# Altium integrated library Linear Technology Power Management Switching Regulator LT1074-LT8705.IntLib: 2252 symbols (part 2 of 148)
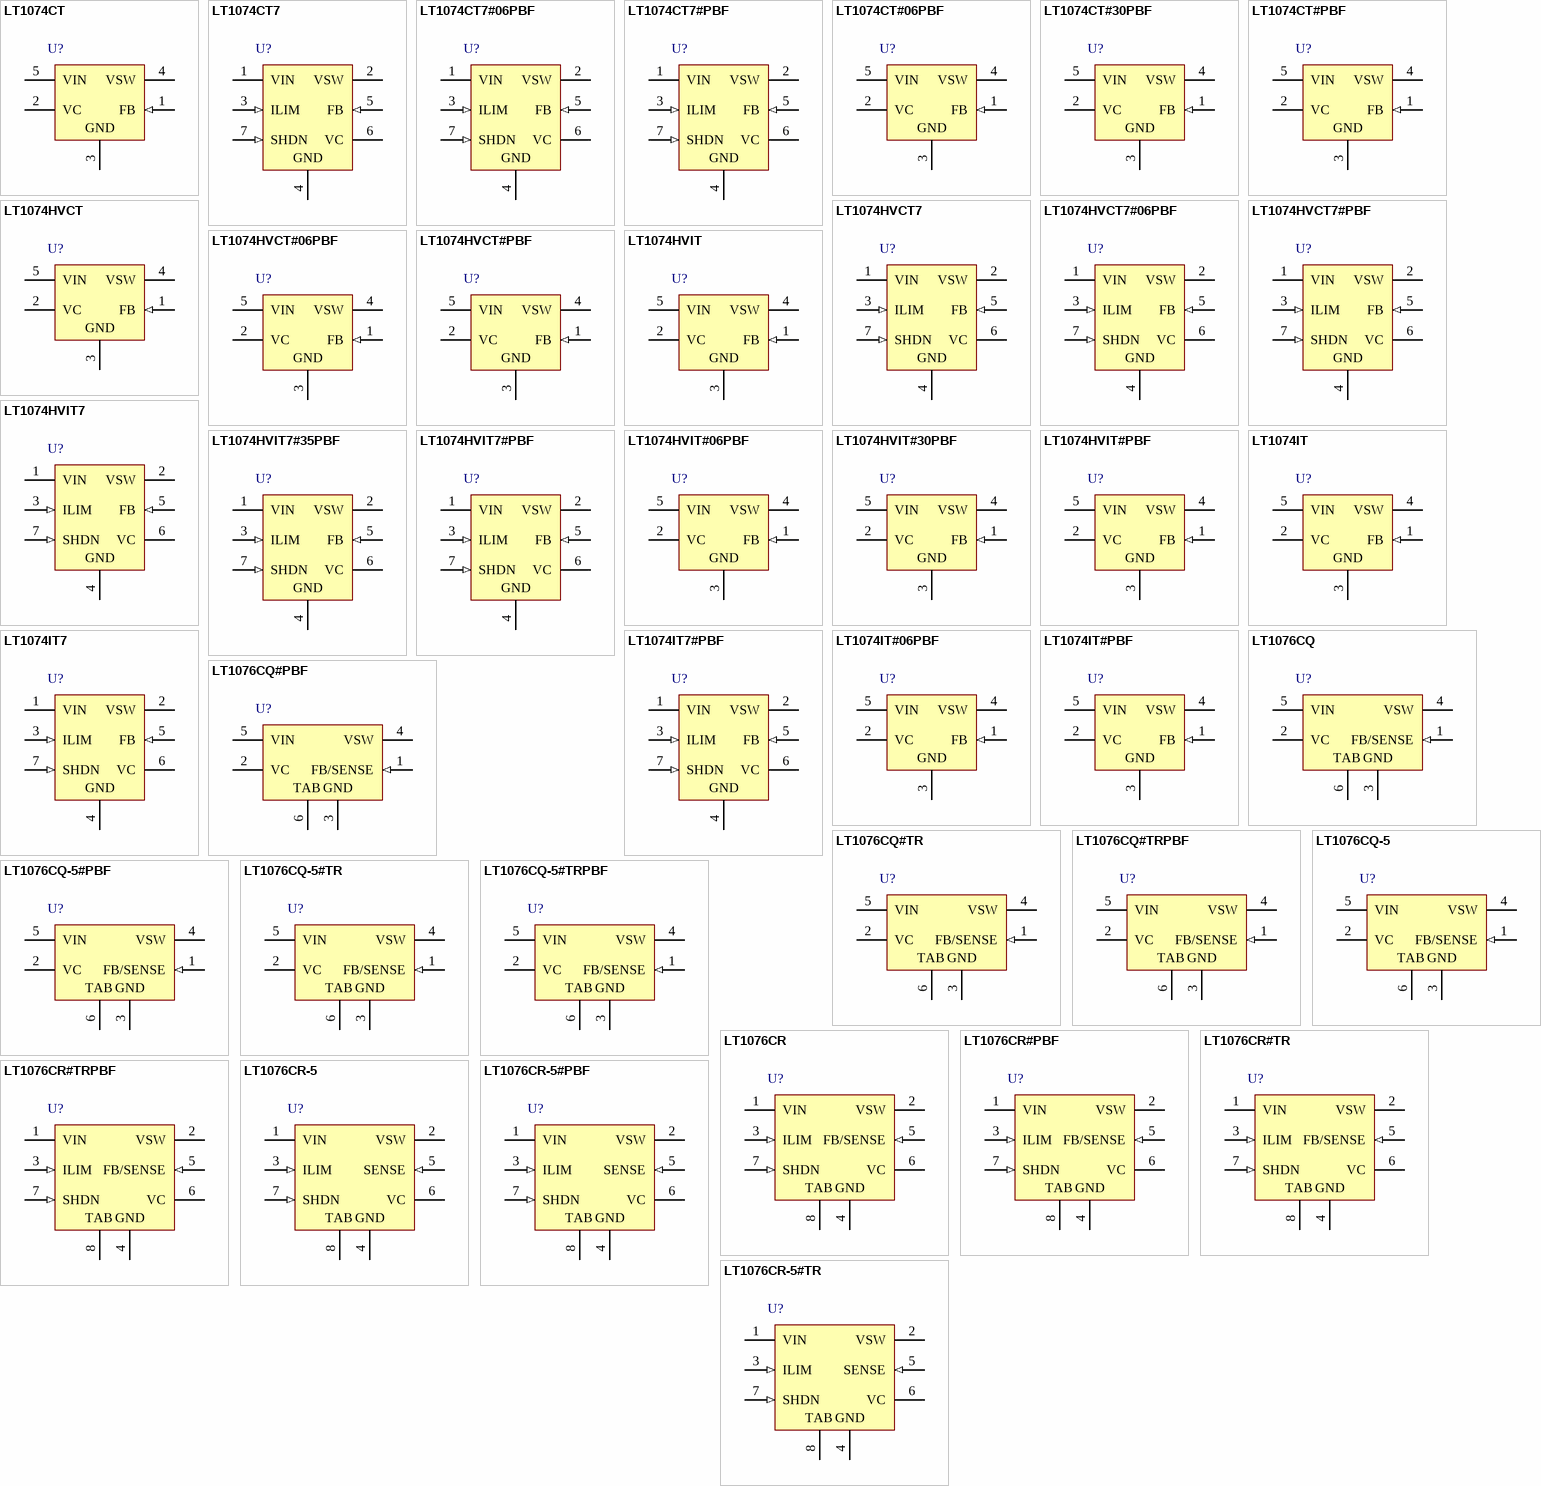
[diagram p72: symbols LT1074CT to LT1076CR-5#TR]

## LT1076CQ#TRPBF
designator U?
Step-Down Switching Regulator, 5-pin DPAK (Q-5), 0 to 70 degC, Pb-Free, Tape and Reel; Manufacturer: Linear Technology; PartNumber: LT1076CQ#TRPBF; Number of Outputs: 1; DatasheetVersion: Rev. D; PackageVersion: Rev. F, 09/2011; PackageReference: Q-5; PackageDescription: 5-Pin Plastic DD Pak, Body 10.2235 x 8.89 mm, Pitch 1.702 mm; Supplier 1: Digi-Key; Supplier Part Number 1: LT1076CQ#TRPBF-ND; Packing: Tape and Reel; RoHS: TRUE; Mounting Technology: Surface Mount; ComponentLink1Description: Manufacturer URL; ComponentLink1URL: http://www.linear.com/; ComponentLink2Description: Datasheet; ComponentLink2URL: http://cds.linear.com/docs/en/datasheet/1074fds.pdf; ComponentLink3Description: Package Specification; ComponentLink3URL: http://cds.linear.com/docs/en/packaging/Q%20DD5%2005-08-1461%20Rev%20F.pdf
footprint LT-Q-5_N (DPAK, 5-Leads, Body 10.22x8.89mm, Pitch 1.702mm, IPC Medium Density)
footprint LT-Q-5_L (DPAK, 5-Leads, Body 10.22x8.89mm, Pitch 1.702mm, IPC High Density)
footprint LT-Q-5_M (DPAK, 5-Leads, Body 10.22x8.89mm, Pitch 1.702mm, IPC Low Density)
pins: 1 FB/SENSE (in), 2 VC, 3 GND (power) "It might seem unusual to describe a ground pin, but in the case of regulators, the ground pin must be connected properly to ensure good load regulation. The internal reference voltage is referenced to the ground pin; so any (See Datasheet)", 4 VSW (power), 5 VIN (power) "The VIN pin is both the supply voltage for internal control circuitry and one end of the high current switch. It is important, especially at low input voltages, that this pin be bypassed with a low ESR, and low inductance (See Datasheet)", 6 TAB (power) "It might seem unusual to describe a ground pin, but in the case of regulators, the ground pin must be connected properly to ensure good load regulation. The internal reference voltage is referenced to the ground pin; so any (See Datasheet)"

## LT1076CQ-5
designator U?
Step-Down Switching Regulator, 5-pin DPAK (Q-5), 0 to 70 degC; Manufacturer: Linear Technology; PartNumber: LT1076CQ-5; Number of Outputs: 1; DatasheetVersion: Rev. C; PackageVersion: Rev. F, 09/2011; PackageReference: Q-5; PackageDescription: 5-Pin Plastic DD Pak, Body 10.2235 x 8.89 mm, Pitch 1.702 mm; Supplier 1: Digi-Key; Supplier Part Number 1: LT1076CQ-5-ND; Supplier 2: Newark; Supplier Part Number 2: 57M1323; RoHS: FALSE; Mounting Technology: Surface Mount; ComponentLink1Description: Manufacturer URL; ComponentLink1URL: http://www.linear.com/; ComponentLink2Description: Datasheet; ComponentLink2URL: http://cds.linear.com/docs/en/datasheet/10765fc.pdf; ComponentLink3Description: Package Specification; ComponentLink3URL: http://cds.linear.com/docs/en/packaging/Q%20DD5%2005-08-1461%20Rev%20F.pdf
footprint LT-Q-5_N (DPAK, 5-Leads, Body 10.22x8.89mm, Pitch 1.702mm, IPC Medium Density)
footprint LT-Q-5_L (DPAK, 5-Leads, Body 10.22x8.89mm, Pitch 1.702mm, IPC High Density)
footprint LT-Q-5_M (DPAK, 5-Leads, Body 10.22x8.89mm, Pitch 1.702mm, IPC Low Density)
pins: 1 FB/SENSE (in), 2 VC, 3 GND (power), 4 VSW (power), 5 VIN (power), 6 TAB

## LT1076CQ-5#PBF
designator U?
Step-Down Switching Regulator, 5-pin DPAK (Q-5), 0 to 70 degC, Pb-Free; Manufacturer: Linear Technology; PartNumber: LT1076CQ-5#PBF; Number of Outputs: 1; DatasheetVersion: Rev. C; PackageVersion: Rev. F, 09/2011; PackageReference: Q-5; PackageDescription: 5-Pin Plastic DD Pak, Body 10.2235 x 8.89 mm, Pitch 1.702 mm; Supplier 1: Digi-Key; Supplier Part Number 1: LT1076CQ-5#PBF-ND; Supplier 2: Farnell; Supplier Part Number 2: 2211409; Supplier 3: Newark; Supplier Part Number 3: 57M1324; RoHS: TRUE; Mounting Technology: Surface Mount; ComponentLink1Description: Manufacturer URL; ComponentLink1URL: http://www.linear.com/; ComponentLink2Description: Datasheet; ComponentLink2URL: http://cds.linear.com/docs/en/datasheet/10765fc.pdf; ComponentLink3Description: Package Specification; ComponentLink3URL: http://cds.linear.com/docs/en/packaging/Q%20DD5%2005-08-1461%20Rev%20F.pdf
footprint LT-Q-5_N (DPAK, 5-Leads, Body 10.22x8.89mm, Pitch 1.702mm, IPC Medium Density)
footprint LT-Q-5_L (DPAK, 5-Leads, Body 10.22x8.89mm, Pitch 1.702mm, IPC High Density)
footprint LT-Q-5_M (DPAK, 5-Leads, Body 10.22x8.89mm, Pitch 1.702mm, IPC Low Density)
pins: 1 FB/SENSE (in), 2 VC, 3 GND (power), 4 VSW (power), 5 VIN (power), 6 TAB

## LT1076CQ-5#TR
designator U?
Step-Down Switching Regulator, 5-pin DPAK (Q-5), 0 to 70 degC, Tape and Reel; Manufacturer: Linear Technology; PartNumber: LT1076CQ-5#TR; Number of Outputs: 1; DatasheetVersion: Rev. C; PackageVersion: Rev. F, 09/2011; PackageReference: Q-5; PackageDescription: 5-Pin Plastic DD Pak, Body 10.2235 x 8.89 mm, Pitch 1.702 mm; Supplier 1: Digi-Key; Supplier Part Number 1: LT1076CQ-5#TR-ND; Packing: Tape and Reel; RoHS: FALSE; Mounting Technology: Surface Mount; ComponentLink1Description: Manufacturer URL; ComponentLink1URL: http://www.linear.com/; ComponentLink2Description: Datasheet; ComponentLink2URL: http://cds.linear.com/docs/en/datasheet/10765fc.pdf; ComponentLink3Description: Package Specification; ComponentLink3URL: http://cds.linear.com/docs/en/packaging/Q%20DD5%2005-08-1461%20Rev%20F.pdf
footprint LT-Q-5_N (DPAK, 5-Leads, Body 10.22x8.89mm, Pitch 1.702mm, IPC Medium Density)
footprint LT-Q-5_L (DPAK, 5-Leads, Body 10.22x8.89mm, Pitch 1.702mm, IPC High Density)
footprint LT-Q-5_M (DPAK, 5-Leads, Body 10.22x8.89mm, Pitch 1.702mm, IPC Low Density)
pins: 1 FB/SENSE (in), 2 VC, 3 GND (power), 4 VSW (power), 5 VIN (power), 6 TAB

## LT1076CQ-5#TRPBF
designator U?
Step-Down Switching Regulator, 5-pin DPAK (Q-5), 0 to 70 degC, Pb-Free, Tape and Reel; Manufacturer: Linear Technology; PartNumber: LT1076CQ-5#TRPBF; Number of Outputs: 1; DatasheetVersion: Rev. C; PackageVersion: Rev. F, 09/2011; PackageReference: Q-5; PackageDescription: 5-Pin Plastic DD Pak, Body 10.2235 x 8.89 mm, Pitch 1.702 mm; Supplier 1: Digi-Key; Supplier Part Number 1: LT1076CQ-5#TRPBF-ND; Packing: Tape and Reel; RoHS: TRUE; Mounting Technology: Surface Mount; ComponentLink1Description: Manufacturer URL; ComponentLink1URL: http://www.linear.com/; ComponentLink2Description: Datasheet; ComponentLink2URL: http://cds.linear.com/docs/en/datasheet/10765fc.pdf; ComponentLink3Description: Package Specification; ComponentLink3URL: http://cds.linear.com/docs/en/packaging/Q%20DD5%2005-08-1461%20Rev%20F.pdf
footprint LT-Q-5_N (DPAK, 5-Leads, Body 10.22x8.89mm, Pitch 1.702mm, IPC Medium Density)
footprint LT-Q-5_L (DPAK, 5-Leads, Body 10.22x8.89mm, Pitch 1.702mm, IPC High Density)
footprint LT-Q-5_M (DPAK, 5-Leads, Body 10.22x8.89mm, Pitch 1.702mm, IPC Low Density)
pins: 1 FB/SENSE (in), 2 VC, 3 GND (power), 4 VSW (power), 5 VIN (power), 6 TAB

## LT1076CR
designator U?
Step-Down Switching Regulator, 7-pin DPAK (R-7), 0 to 70 degC; Manufacturer: Linear Technology; PartNumber: LT1076CR; Number of Outputs: 1; DatasheetVersion: Rev. D; PackageVersion: Rev. F, 05/2012; PackageReference: R-7; PackageDescription: 7-Pin Plastic DD Pak, Body 10.2235 x 8.89 mm, Pitch 1.27 mm; Supplier 1: Newark; Supplier Part Number 1: 57M1330; RoHS: FALSE; Mounting Technology: Surface Mount; ComponentLink1Description: Manufacturer URL; ComponentLink1URL: http://www.linear.com/; ComponentLink2Description: Datasheet; ComponentLink2URL: http://cds.linear.com/docs/en/datasheet/1074fds.pdf; ComponentLink3Description: Package Specification; ComponentLink3URL: http://cds.linear.com/docs/en/packaging/05081462_F_R.pdf
footprint LT-R-7_N (DPAK, 7-Leads, Body 10.224x8.89mm, Pitch 1.27mm, IPC Medium Density)
footprint LT-R-7_L (DPAK, 7-Leads, Body 10.224x8.89mm, Pitch 1.27mm, IPC High Density)
footprint LT-R-7_M (DPAK, 7-Leads, Body 10.224x8.89mm, Pitch 1.27mm, IPC Low Density)
pins: 1 VIN (power) "The VIN pin is both the supply voltage for internal control circuitry and one end of the high current switch.", 2 VSW (power), 3 ILIM (in) "The ILIM pin is used to reduce current limit below the preset value of 6.5A.", 4 GND (power) "It might seem unusual to describe a ground pin, but in the case of regulators, the ground pin must be connected properly to ensure good load regulation.", 5 FB/SENSE (in) "The feedback pin is the inverting input of an error amplifier which controls the regulator output by adjusting duty cycle.", 6 VC, 7 SHDN (in) "The shutdown pin is used for undervoltage lockout, micropower shutdown, soft-start, delayed start, or as a general purpose on/off control of the regulator output.", 8 TAB (power)

## LT1076CR#PBF
designator U?
Step-Down Switching Regulator, 7-pin DPAK (R-7), 0 to 70 degC, Pb-Free; Manufacturer: Linear Technology; PartNumber: LT1076CR#PBF; Number of Outputs: 1; DatasheetVersion: Rev. D; PackageVersion: Rev. F, 05/2012; PackageReference: R-7; PackageDescription: 7-Pin Plastic DD Pak, Body 10.2235 x 8.89 mm, Pitch 1.27 mm; Supplier 1: Digi-Key; Supplier Part Number 1: LT1076CR#PBF-ND; Supplier 2: Farnell; Supplier Part Number 2: 1273666; Supplier 3: Newark; Supplier Part Number 3: 57M1335; RoHS: TRUE; Mounting Technology: Surface Mount; ComponentLink1Description: Manufacturer URL; ComponentLink1URL: http://www.linear.com/; ComponentLink2Description: Datasheet; ComponentLink2URL: http://cds.linear.com/docs/en/datasheet/1074fds.pdf; ComponentLink3Description: Package Specification; ComponentLink3URL: http://cds.linear.com/docs/en/packaging/05081462_F_R.pdf
footprint LT-R-7_N (DPAK, 7-Leads, Body 10.224x8.89mm, Pitch 1.27mm, IPC Medium Density)
footprint LT-R-7_L (DPAK, 7-Leads, Body 10.224x8.89mm, Pitch 1.27mm, IPC High Density)
footprint LT-R-7_M (DPAK, 7-Leads, Body 10.224x8.89mm, Pitch 1.27mm, IPC Low Density)
pins: 1 VIN (power) "The VIN pin is both the supply voltage for internal control circuitry and one end of the high current switch.", 2 VSW (power), 3 ILIM (in) "The ILIM pin is used to reduce current limit below the preset value of 6.5A.", 4 GND (power) "It might seem unusual to describe a ground pin, but in the case of regulators, the ground pin must be connected properly to ensure good load regulation.", 5 FB/SENSE (in) "The feedback pin is the inverting input of an error amplifier which controls the regulator output by adjusting duty cycle.", 6 VC, 7 SHDN (in) "The shutdown pin is used for undervoltage lockout, micropower shutdown, soft-start, delayed start, or as a general purpose on/off control of the regulator output.", 8 TAB (power)

## LT1076CR#TR
designator U?
Step-Down Switching Regulator, 7-pin DPAK (R-7), 0 to 70 degC, Tape and Reel; Manufacturer: Linear Technology; PartNumber: LT1076CR#TR; Number of Outputs: 1; DatasheetVersion: Rev. D; PackageVersion: Rev. F, 05/2012; PackageReference: R-7; PackageDescription: 7-Pin Plastic DD Pak, Body 10.2235 x 8.89 mm, Pitch 1.27 mm; Supplier 1: Digi-Key; Supplier Part Number 1: LT1076CR#TR-ND; Supplier 2: Newark; Supplier Part Number 2: 57M1336; Packing: Tape and Reel; RoHS: FALSE; Mounting Technology: Surface Mount; ComponentLink1Description: Manufacturer URL; ComponentLink1URL: http://www.linear.com/; ComponentLink2Description: Datasheet; ComponentLink2URL: http://cds.linear.com/docs/en/datasheet/1074fds.pdf; ComponentLink3Description: Package Specification; ComponentLink3URL: http://cds.linear.com/docs/en/packaging/05081462_F_R.pdf
footprint LT-R-7_N (DPAK, 7-Leads, Body 10.224x8.89mm, Pitch 1.27mm, IPC Medium Density)
footprint LT-R-7_L (DPAK, 7-Leads, Body 10.224x8.89mm, Pitch 1.27mm, IPC High Density)
footprint LT-R-7_M (DPAK, 7-Leads, Body 10.224x8.89mm, Pitch 1.27mm, IPC Low Density)
pins: 1 VIN (power) "The VIN pin is both the supply voltage for internal control circuitry and one end of the high current switch.", 2 VSW (power), 3 ILIM (in) "The ILIM pin is used to reduce current limit below the preset value of 6.5A.", 4 GND (power) "It might seem unusual to describe a ground pin, but in the case of regulators, the ground pin must be connected properly to ensure good load regulation.", 5 FB/SENSE (in) "The feedback pin is the inverting input of an error amplifier which controls the regulator output by adjusting duty cycle.", 6 VC, 7 SHDN (in) "The shutdown pin is used for undervoltage lockout, micropower shutdown, soft-start, delayed start, or as a general purpose on/off control of the regulator output.", 8 TAB (power)

## LT1076CR#TRPBF
designator U?
Step-Down Switching Regulator, 7-pin DPAK (R-7), 0 to 70 degC, Pb-Free, Tape and Reel; Manufacturer: Linear Technology; PartNumber: LT1076CR#TRPBF; Number of Outputs: 1; DatasheetVersion: Rev. D; PackageVersion: Rev. F, 05/2012; PackageReference: R-7; PackageDescription: 7-Pin Plastic DD Pak, Body 10.2235 x 8.89 mm, Pitch 1.27 mm; Supplier 1: Digi-Key; Supplier Part Number 1: LT1076CR#TRPBF-ND; Packing: Tape and Reel; RoHS: TRUE; Mounting Technology: Surface Mount; ComponentLink1Description: Manufacturer URL; ComponentLink1URL: http://www.linear.com/; ComponentLink2Description: Datasheet; ComponentLink2URL: http://cds.linear.com/docs/en/datasheet/1074fds.pdf; ComponentLink3Description: Package Specification; ComponentLink3URL: http://cds.linear.com/docs/en/packaging/05081462_F_R.pdf
footprint LT-R-7_N (DPAK, 7-Leads, Body 10.224x8.89mm, Pitch 1.27mm, IPC Medium Density)
footprint LT-R-7_L (DPAK, 7-Leads, Body 10.224x8.89mm, Pitch 1.27mm, IPC High Density)
footprint LT-R-7_M (DPAK, 7-Leads, Body 10.224x8.89mm, Pitch 1.27mm, IPC Low Density)
pins: 1 VIN (power) "The VIN pin is both the supply voltage for internal control circuitry and one end of the high current switch.", 2 VSW (power), 3 ILIM (in) "The ILIM pin is used to reduce current limit below the preset value of 6.5A.", 4 GND (power) "It might seem unusual to describe a ground pin, but in the case of regulators, the ground pin must be connected properly to ensure good load regulation.", 5 FB/SENSE (in) "The feedback pin is the inverting input of an error amplifier which controls the regulator output by adjusting duty cycle.", 6 VC, 7 SHDN (in) "The shutdown pin is used for undervoltage lockout, micropower shutdown, soft-start, delayed start, or as a general purpose on/off control of the regulator output.", 8 TAB (power)

## LT1076CR-5
designator U?
Step-Down Switching Regulator, 7-pin DPAK (R-7), 0 to 70 degC; Manufacturer: Linear Technology; PartNumber: LT1076CR-5; Number of Outputs: 1; DatasheetVersion: Rev. C; PackageVersion: Rev. F, 05/2012; PackageReference: R-7; PackageDescription: 7-Pin Plastic DD Pak, Body 10.2235 x 8.89 mm, Pitch 1.27 mm; Supplier 1: Digi-Key; Supplier Part Number 1: LT1076CR-5-ND; Supplier 2: Newark; Supplier Part Number 2: 57M1331; RoHS: FALSE; Mounting Technology: Surface Mount; ComponentLink1Description: Manufacturer URL; ComponentLink1URL: http://www.linear.com/; ComponentLink2Description: Datasheet; ComponentLink2URL: http://cds.linear.com/docs/en/datasheet/10765fc.pdf; ComponentLink3Description: Package Specification; ComponentLink3URL: http://cds.linear.com/docs/en/packaging/05081462_F_R.pdf
footprint LT-R-7_N (DPAK, 7-Leads, Body 10.224x8.89mm, Pitch 1.27mm, IPC Medium Density)
footprint LT-R-7_L (DPAK, 7-Leads, Body 10.224x8.89mm, Pitch 1.27mm, IPC High Density)
footprint LT-R-7_M (DPAK, 7-Leads, Body 10.224x8.89mm, Pitch 1.27mm, IPC Low Density)
pins: 1 VIN (power), 2 VSW (power), 3 ILIM (in), 4 GND (power), 5 SENSE (in), 6 VC, 7 SHDN (in), 8 TAB (power)

## LT1076CR-5#PBF
designator U?
Step-Down Switching Regulator, 7-pin DPAK (R-7), 0 to 70 degC, Pb-Free; Manufacturer: Linear Technology; PartNumber: LT1076CR-5#PBF; Number of Outputs: 1; DatasheetVersion: Rev. C; PackageVersion: Rev. F, 05/2012; PackageReference: R-7; PackageDescription: 7-Pin Plastic DD Pak, Body 10.2235 x 8.89 mm, Pitch 1.27 mm; Supplier 1: Digi-Key; Supplier Part Number 1: LT1076CR-5#PBF-ND; Supplier 2: Newark; Supplier Part Number 2: 57M1332; RoHS: TRUE; Mounting Technology: Surface Mount; ComponentLink1Description: Manufacturer URL; ComponentLink1URL: http://www.linear.com/; ComponentLink2Description: Datasheet; ComponentLink2URL: http://cds.linear.com/docs/en/datasheet/10765fc.pdf; ComponentLink3Description: Package Specification; ComponentLink3URL: http://cds.linear.com/docs/en/packaging/05081462_F_R.pdf
footprint LT-R-7_N (DPAK, 7-Leads, Body 10.224x8.89mm, Pitch 1.27mm, IPC Medium Density)
footprint LT-R-7_L (DPAK, 7-Leads, Body 10.224x8.89mm, Pitch 1.27mm, IPC High Density)
footprint LT-R-7_M (DPAK, 7-Leads, Body 10.224x8.89mm, Pitch 1.27mm, IPC Low Density)
pins: 1 VIN (power), 2 VSW (power), 3 ILIM (in), 4 GND (power), 5 SENSE (in), 6 VC, 7 SHDN (in), 8 TAB (power)

## LT1076CR-5#TR
designator U?
Step-Down Switching Regulator, 7-pin DPAK (R-7), 0 to 70 degC, Tape and Reel; Manufacturer: Linear Technology; PartNumber: LT1076CR-5#TR; Number of Outputs: 1; DatasheetVersion: Rev. C; PackageVersion: Rev. F, 05/2012; PackageReference: R-7; PackageDescription: 7-Pin Plastic DD Pak, Body 10.2235 x 8.89 mm, Pitch 1.27 mm; Supplier 1: Digi-Key; Supplier Part Number 1: LT1076CR-5#TR-ND; Packing: Tape and Reel; RoHS: FALSE; Mounting Technology: Surface Mount; ComponentLink1Description: Manufacturer URL; ComponentLink1URL: http://www.linear.com/; ComponentLink2Description: Datasheet; ComponentLink2URL: http://cds.linear.com/docs/en/datasheet/10765fc.pdf; ComponentLink3Description: Package Specification; ComponentLink3URL: http://cds.linear.com/docs/en/packaging/05081462_F_R.pdf
footprint LT-R-7_N (DPAK, 7-Leads, Body 10.224x8.89mm, Pitch 1.27mm, IPC Medium Density)
footprint LT-R-7_L (DPAK, 7-Leads, Body 10.224x8.89mm, Pitch 1.27mm, IPC High Density)
footprint LT-R-7_M (DPAK, 7-Leads, Body 10.224x8.89mm, Pitch 1.27mm, IPC Low Density)
pins: 1 VIN (power), 2 VSW (power), 3 ILIM (in), 4 GND (power), 5 SENSE (in), 6 VC, 7 SHDN (in), 8 TAB (power)

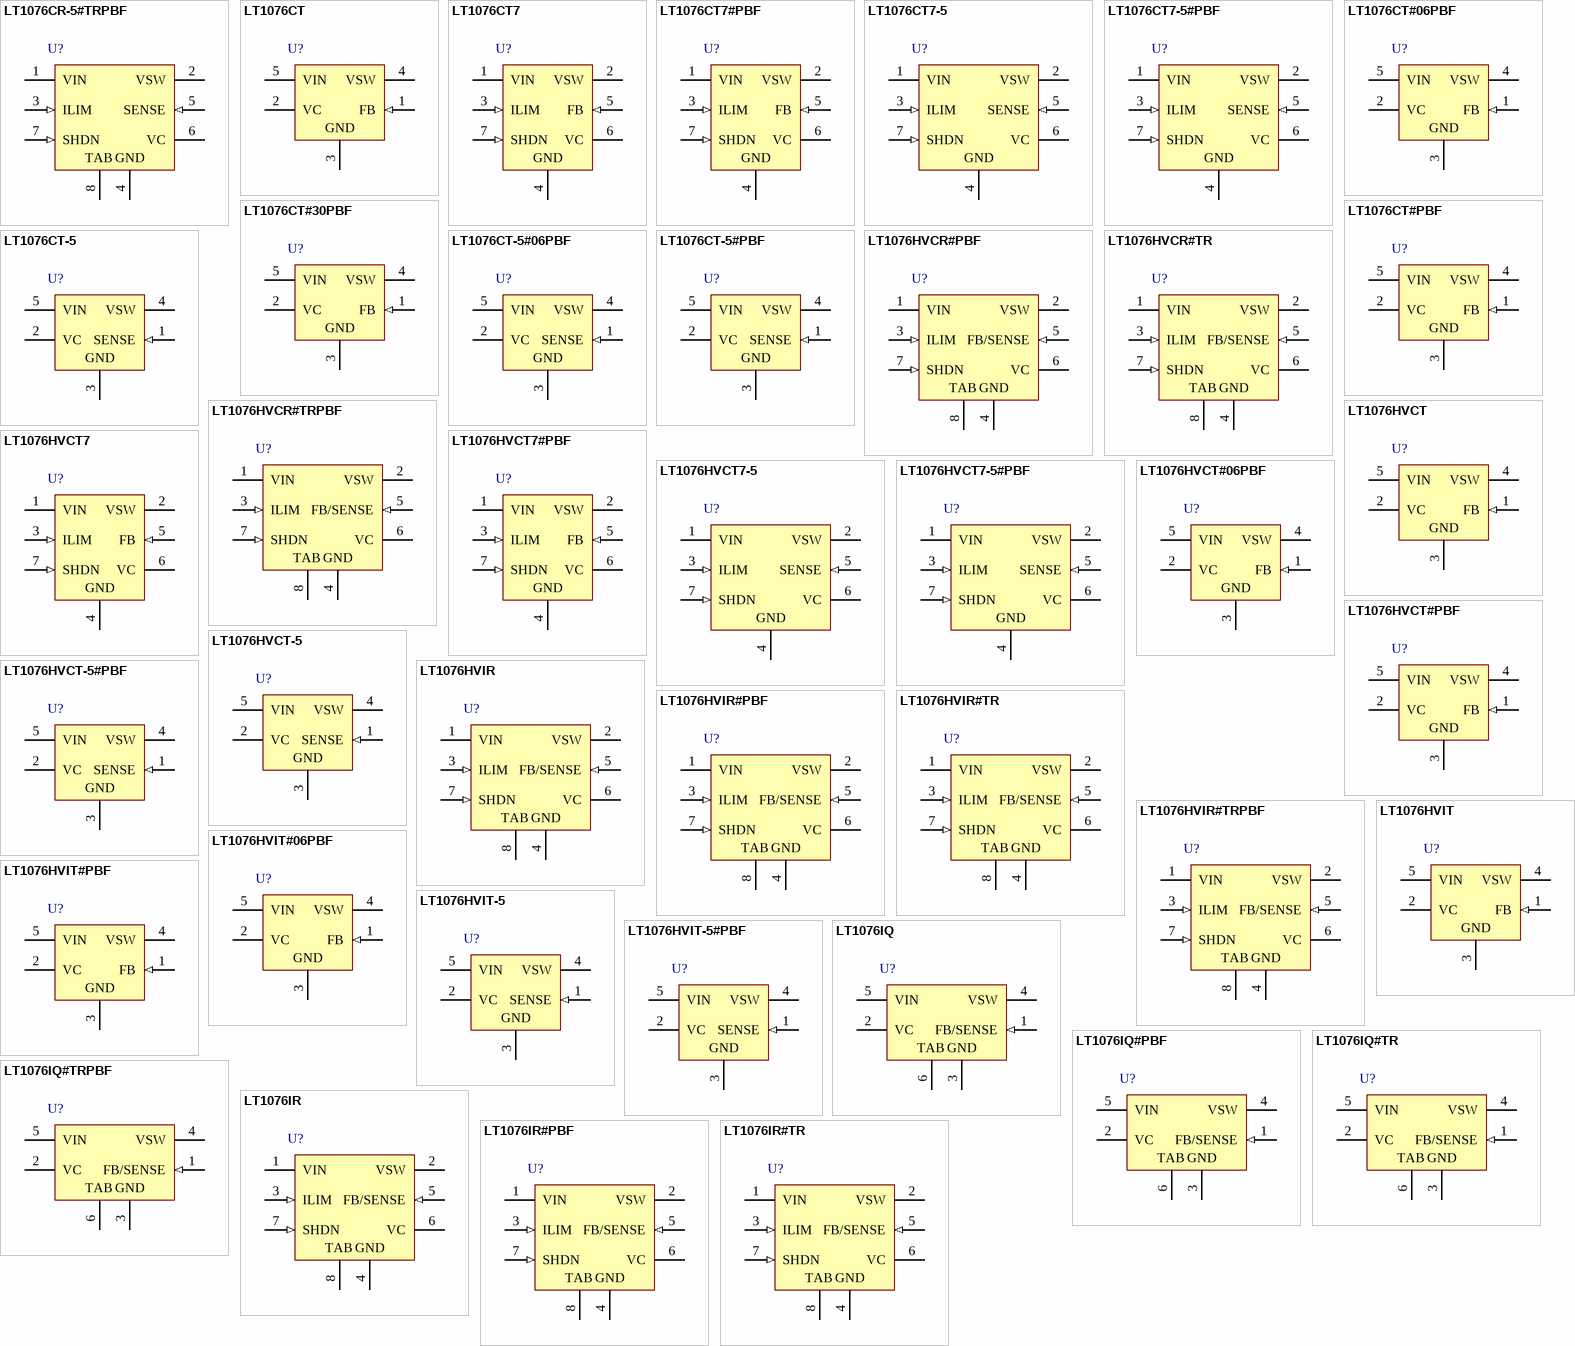
[diagram p1: symbols LT1076CR-5#TRPBF to LT1076IR#TR]

## LT1076CR-5#TRPBF
designator U?
Step-Down Switching Regulator, 7-pin DPAK (R-7), 0 to 70 degC, Pb-Free, Tape and Reel; Manufacturer: Linear Technology; PartNumber: LT1076CR-5#TRPBF; Number of Outputs: 1; DatasheetVersion: Rev. C; PackageVersion: Rev. F, 05/2012; PackageReference: R-7; PackageDescription: 7-Pin Plastic DD Pak, Body 10.2235 x 8.89 mm, Pitch 1.27 mm; Supplier 1: Digi-Key; Supplier Part Number 1: LT1076CR-5#TRPBF-ND; Supplier 2: Newark; Supplier Part Number 2: 57M1334; Packing: Tape and Reel; RoHS: TRUE; Mounting Technology: Surface Mount; ComponentLink1Description: Manufacturer URL; ComponentLink1URL: http://www.linear.com/; ComponentLink2Description: Datasheet; ComponentLink2URL: http://cds.linear.com/docs/en/datasheet/10765fc.pdf; ComponentLink3Description: Package Specification; ComponentLink3URL: http://cds.linear.com/docs/en/packaging/05081462_F_R.pdf
footprint LT-R-7_N (DPAK, 7-Leads, Body 10.224x8.89mm, Pitch 1.27mm, IPC Medium Density)
footprint LT-R-7_L (DPAK, 7-Leads, Body 10.224x8.89mm, Pitch 1.27mm, IPC High Density)
footprint LT-R-7_M (DPAK, 7-Leads, Body 10.224x8.89mm, Pitch 1.27mm, IPC Low Density)
pins: 1 VIN (power), 2 VSW (power), 3 ILIM (in), 4 GND (power), 5 SENSE (in), 6 VC, 7 SHDN (in), 8 TAB (power)

## LT1076CT
designator U?
Step-Down Switching Regulator, 5-pin FM (T-5), 0 to 70 degC; Manufacturer: Linear Technology; PartNumber: LT1076CT; Number of Outputs: 1; DatasheetVersion: Rev. D; PackageVersion: Aug-10; PackageReference: T-5; PackageDescription: 5-Pin Plastic TO-220 (Standard), Body 10.224 x 8.89 mm, Pitch 1.7 mm; Supplier 1: Digi-Key; Supplier Part Number 1: LT1076CT-ND; Supplier 2: Newark; Supplier Part Number 2: 57M1338; RoHS: FALSE; Mounting Technology: Through Hole; ComponentLink1Description: Manufacturer URL; ComponentLink1URL: http://www.linear.com/; ComponentLink2Description: Datasheet; ComponentLink2URL: http://cds.linear.com/docs/en/datasheet/1074fds.pdf; ComponentLink3Description: Package Specification; ComponentLink3URL: http://cds.linear.com/docs/en/packaging/TO-220_5_05-08-1421.pdf
footprint LT-T-5-S (FM, 5-Leads, Body 10.55x4.6mm, Pitch 1.7mm)
pins: 1 FB (in) "The feedback pin is the inverting input of an error amplifier which controls the regulator output by adjusting duty cycle. The noninverting input is internally connected to a trimmed 2.21V reference. Input bias current is (See Datasheet)", 2 VC, 3 GND (power) "It might seem unusual to describe a ground pin, but in the case of regulators, the ground pin must be connected properly to ensure good load regulation. The internal reference voltage is referenced to the ground pin; so any (See Datasheet)", 4 VSW (power), 5 VIN (power) "The VIN pin is both the supply voltage for internal control circuitry and one end of the high current switch. It is important, especially at low input voltages, that this pin be bypassed with a low ESR, and low inductance (See Datasheet)"

## LT1076CT7
designator U?
Step-Down Switching Regulator, 7-pin FM (T7-7), 0 to 70 degC; Manufacturer: Linear Technology; PartNumber: LT1076CT7; Number of Outputs: 1; DatasheetVersion: Rev. D; PackageVersion: Jun-10; PackageReference: T7-7; PackageDescription: 7-Pin Plastic TO-220 (Straight Lead), Body 10.224 x 4.382 mm, Pitch 1.27 mm; Supplier 1: Digi-Key; Supplier Part Number 1: LT1076CT7-ND; RoHS: FALSE; Mounting Technology: Through Hole; ComponentLink1Description: Manufacturer URL; ComponentLink1URL: http://www.linear.com/; ComponentLink2Description: Datasheet; ComponentLink2URL: http://cds.linear.com/docs/en/datasheet/1074fds.pdf; ComponentLink3Description: Package Specification; ComponentLink3URL: http://www.linear.com/docs/en/packaging/TO-220_7_05-08-1422_STRAIGHT_LEAD.pdf
footprint LT-T7-7-S_V (FM, 7-Leads, Body 10.55x4.6mm, Pitch 1.27mm)
pins: 1 VIN (power) "The VIN pin is both the supply voltage for internal control circuitry and one end of the high current switch.", 2 VSW (power), 3 ILIM (in) "The ILIM pin is used to reduce current limit below the preset value of 6.5A.", 4 GND (power) "It might seem unusual to describe a ground pin, but in the case of regulators, the ground pin must be connected properly to ensure good load regulation.", 5 FB (in) "The feedback pin is the inverting input of an error amplifier which controls the regulator output by adjusting duty cycle.", 6 VC, 7 SHDN (in) "The shutdown pin is used for undervoltage lockout, micropower shutdown, soft-start, delayed start, or as a general purpose on/off control of the regulator output."

## LT1076CT7#PBF
designator U?
Step-Down Switching Regulator, 7-pin FM (T7-7), 0 to 70 degC, Pb-Free; Manufacturer: Linear Technology; PartNumber: LT1076CT7#PBF; Number of Outputs: 1; DatasheetVersion: Rev. D; PackageVersion: Jun-10; PackageReference: T7-7; PackageDescription: 7-Pin Plastic TO-220 (Straight Lead), Body 10.224 x 4.382 mm, Pitch 1.27 mm; Supplier 1: Digi-Key; Supplier Part Number 1: LT1076CT7#PBF-ND; RoHS: TRUE; Mounting Technology: Through Hole; ComponentLink1Description: Manufacturer URL; ComponentLink1URL: http://www.linear.com/; ComponentLink2Description: Datasheet; ComponentLink2URL: http://cds.linear.com/docs/en/datasheet/1074fds.pdf; ComponentLink3Description: Package Specification; ComponentLink3URL: http://www.linear.com/docs/en/packaging/TO-220_7_05-08-1422_STRAIGHT_LEAD.pdf
footprint LT-T7-7-S_V (FM, 7-Leads, Body 10.55x4.6mm, Pitch 1.27mm)
pins: 1 VIN (power) "The VIN pin is both the supply voltage for internal control circuitry and one end of the high current switch.", 2 VSW (power), 3 ILIM (in) "The ILIM pin is used to reduce current limit below the preset value of 6.5A.", 4 GND (power) "It might seem unusual to describe a ground pin, but in the case of regulators, the ground pin must be connected properly to ensure good load regulation.", 5 FB (in) "The feedback pin is the inverting input of an error amplifier which controls the regulator output by adjusting duty cycle.", 6 VC, 7 SHDN (in) "The shutdown pin is used for undervoltage lockout, micropower shutdown, soft-start, delayed start, or as a general purpose on/off control of the regulator output."

## LT1076CT7-5
designator U?
Step-Down Switching Regulator, 7-pin FM (T7-7), 0 to 70 degC; Manufacturer: Linear Technology; PartNumber: LT1076CT7-5; Number of Outputs: 1; DatasheetVersion: Rev. C; PackageVersion: Jun-10; PackageReference: T7-7; PackageDescription: 7-Pin Plastic TO-220 (Straight Lead), Body 10.224 x 4.382 mm, Pitch 1.27 mm; Supplier 1: Digi-Key; Supplier Part Number 1: LT1076CT7-5-ND; RoHS: FALSE; Mounting Technology: Through Hole; ComponentLink1Description: Manufacturer URL; ComponentLink1URL: http://www.linear.com/; ComponentLink2Description: Datasheet; ComponentLink2URL: http://cds.linear.com/docs/en/datasheet/10765fc.pdf; ComponentLink3Description: Package Specification; ComponentLink3URL: http://www.linear.com/docs/en/packaging/TO-220_7_05-08-1422_STRAIGHT_LEAD.pdf
footprint LT-T7-7-S_V (FM, 7-Leads, Body 10.55x4.6mm, Pitch 1.27mm)
pins: 1 VIN (power), 2 VSW (power), 3 ILIM (in), 4 GND (power), 5 SENSE (in), 6 VC, 7 SHDN (in)

## LT1076CT7-5#PBF
designator U?
Step-Down Switching Regulator, 7-pin FM (T7-7), 0 to 70 degC, Pb-Free; Manufacturer: Linear Technology; PartNumber: LT1076CT7-5#PBF; Number of Outputs: 1; DatasheetVersion: Rev. C; PackageVersion: Jun-10; PackageReference: T7-7; PackageDescription: 7-Pin Plastic TO-220 (Straight Lead), Body 10.224 x 4.382 mm, Pitch 1.27 mm; Supplier 1: Digi-Key; Supplier Part Number 1: LT1076CT7-5#PBF-ND; RoHS: TRUE; Mounting Technology: Through Hole; ComponentLink1Description: Manufacturer URL; ComponentLink1URL: http://www.linear.com/; ComponentLink2Description: Datasheet; ComponentLink2URL: http://cds.linear.com/docs/en/datasheet/10765fc.pdf; ComponentLink3Description: Package Specification; ComponentLink3URL: http://www.linear.com/docs/en/packaging/TO-220_7_05-08-1422_STRAIGHT_LEAD.pdf
footprint LT-T7-7-S_V (FM, 7-Leads, Body 10.55x4.6mm, Pitch 1.27mm)
pins: 1 VIN (power), 2 VSW (power), 3 ILIM (in), 4 GND (power), 5 SENSE (in), 6 VC, 7 SHDN (in)

## LT1076CT#06PBF
designator U?
Step-Down Switching Regulator, 5-pin FM (T-5), 0 to 70 degC, Pb-Free; Manufacturer: Linear Technology; PartNumber: LT1076CT#06PBF; Number of Outputs: 1; DatasheetVersion: Rev. D; PackageVersion: Aug-10; PackageReference: T-5; PackageDescription: 5-Pin Plastic TO-220 (Standard), Body 10.224 x 8.89 mm, Pitch 1.7 mm; Supplier 1: Digi-Key; Supplier Part Number 1: LT1076CT#06PBF-ND; Supplier 2: Farnell; Supplier Part Number 2: 2211410; Supplier 3: Newark; Supplier Part Number 3: 57M1344; RoHS: TRUE; Mounting Technology: Through Hole; ComponentLink1Description: Manufacturer URL; ComponentLink1URL: http://www.linear.com/; ComponentLink2Description: Datasheet; ComponentLink2URL: http://cds.linear.com/docs/en/datasheet/1074fds.pdf; ComponentLink3Description: Package Specification; ComponentLink3URL: http://cds.linear.com/docs/en/packaging/TO-220_5_05-08-1421.pdf
footprint LT-T-5-S (FM, 5-Leads, Body 10.55x4.6mm, Pitch 1.7mm)
pins: 1 FB (in) "The feedback pin is the inverting input of an error amplifier which controls the regulator output by adjusting duty cycle. The noninverting input is internally connected to a trimmed 2.21V reference. Input bias current is (See Datasheet)", 2 VC, 3 GND (power) "It might seem unusual to describe a ground pin, but in the case of regulators, the ground pin must be connected properly to ensure good load regulation. The internal reference voltage is referenced to the ground pin; so any (See Datasheet)", 4 VSW (power), 5 VIN (power) "The VIN pin is both the supply voltage for internal control circuitry and one end of the high current switch. It is important, especially at low input voltages, that this pin be bypassed with a low ESR, and low inductance (See Datasheet)"

## LT1076CT#30PBF
designator U?
Step-Down Switching Regulator, 5-pin FM (T-5), 0 to 70 degC, Pb-Free; Manufacturer: Linear Technology; PartNumber: LT1076CT#30PBF; Number of Outputs: 1; DatasheetVersion: Rev. D; PackageVersion: Aug-10; PackageReference: T-5; PackageDescription: 5-Pin Plastic TO-220 (Standard), Body 10.224 x 8.89 mm, Pitch 1.7 mm; Supplier 1: Digi-Key; Supplier Part Number 1: LT1076CT#30PBF-ND; RoHS: TRUE; Mounting Technology: Through Hole; ComponentLink1Description: Manufacturer URL; ComponentLink1URL: http://www.linear.com/; ComponentLink2Description: Datasheet; ComponentLink2URL: http://cds.linear.com/docs/en/datasheet/1074fds.pdf; ComponentLink3Description: Package Specification; ComponentLink3URL: http://cds.linear.com/docs/en/packaging/TO-220_5_05-08-1421.pdf
footprint LT-T-5-S (FM, 5-Leads, Body 10.55x4.6mm, Pitch 1.7mm)
pins: 1 FB (in) "The feedback pin is the inverting input of an error amplifier which controls the regulator output by adjusting duty cycle. The noninverting input is internally connected to a trimmed 2.21V reference. Input bias current is (See Datasheet)", 2 VC, 3 GND (power) "It might seem unusual to describe a ground pin, but in the case of regulators, the ground pin must be connected properly to ensure good load regulation. The internal reference voltage is referenced to the ground pin; so any (See Datasheet)", 4 VSW (power), 5 VIN (power) "The VIN pin is both the supply voltage for internal control circuitry and one end of the high current switch. It is important, especially at low input voltages, that this pin be bypassed with a low ESR, and low inductance (See Datasheet)"

## LT1076CT#PBF
designator U?
Step-Down Switching Regulator, 5-pin FM (T-5), 0 to 70 degC, Pb-Free; Manufacturer: Linear Technology; PartNumber: LT1076CT#PBF; Number of Outputs: 1; DatasheetVersion: Rev. D; PackageVersion: Aug-10; PackageReference: T-5; PackageDescription: 5-Pin Plastic TO-220 (Standard), Body 10.224 x 8.89 mm, Pitch 1.7 mm; Supplier 1: Digi-Key; Supplier Part Number 1: LT1076CT#PBF-ND; Supplier 2: Farnell; Supplier Part Number 2: 9559647; Supplier 3: Newark; Supplier Part Number 3: 57M1342; RoHS: TRUE; Mounting Technology: Through Hole; ComponentLink1Description: Manufacturer URL; ComponentLink1URL: http://www.linear.com/; ComponentLink2Description: Datasheet; ComponentLink2URL: http://cds.linear.com/docs/en/datasheet/1074fds.pdf; ComponentLink3Description: Package Specification; ComponentLink3URL: http://cds.linear.com/docs/en/packaging/TO-220_5_05-08-1421.pdf
footprint LT-T-5-S (FM, 5-Leads, Body 10.55x4.6mm, Pitch 1.7mm)
pins: 1 FB (in) "The feedback pin is the inverting input of an error amplifier which controls the regulator output by adjusting duty cycle. The noninverting input is internally connected to a trimmed 2.21V reference. Input bias current is (See Datasheet)", 2 VC, 3 GND (power) "It might seem unusual to describe a ground pin, but in the case of regulators, the ground pin must be connected properly to ensure good load regulation. The internal reference voltage is referenced to the ground pin; so any (See Datasheet)", 4 VSW (power), 5 VIN (power) "The VIN pin is both the supply voltage for internal control circuitry and one end of the high current switch. It is important, especially at low input voltages, that this pin be bypassed with a low ESR, and low inductance (See Datasheet)"

## LT1076CT-5
designator U?
Step-Down Switching Regulator, 5-pin FM (T-5), 0 to 70 degC; Manufacturer: Linear Technology; PartNumber: LT1076CT-5; Number of Outputs: 1; DatasheetVersion: Rev. C; PackageVersion: Aug-10; PackageReference: T-5; PackageDescription: 5-Pin Plastic TO-220 (Standard), Body 10.224 x 8.89 mm, Pitch 1.7 mm; Supplier 1: Digi-Key; Supplier Part Number 1: LT1076CT-5-ND; RoHS: FALSE; Mounting Technology: Through Hole; ComponentLink1Description: Manufacturer URL; ComponentLink1URL: http://www.linear.com/; ComponentLink2Description: Datasheet; ComponentLink2URL: http://cds.linear.com/docs/en/datasheet/10765fc.pdf; ComponentLink3Description: Package Specification; ComponentLink3URL: http://cds.linear.com/docs/en/packaging/TO-220_5_05-08-1421.pdf
footprint LT-T-5-S (FM, 5-Leads, Body 10.55x4.6mm, Pitch 1.7mm)
pins: 1 SENSE (in), 2 VC, 3 GND (power), 4 VSW (power), 5 VIN (power)

## LT1076CT-5#06PBF
designator U?
Step-Down Switching Regulator, 5-pin FM (T-5), 0 to 70 degC, Pb-Free; Manufacturer: Linear Technology; PartNumber: LT1076CT-5#06PBF; Number of Outputs: 1; DatasheetVersion: Rev. C; PackageVersion: Aug-10; PackageReference: T-5; PackageDescription: 5-Pin Plastic TO-220 (Standard), Body 10.224 x 8.89 mm, Pitch 1.7 mm; Supplier 1: Digi-Key; Supplier Part Number 1: LT1076CT-5#06PBF-ND; Supplier 2: Newark; Supplier Part Number 2: 44W8461; RoHS: TRUE; Mounting Technology: Through Hole; ComponentLink1Description: Manufacturer URL; ComponentLink1URL: http://www.linear.com/; ComponentLink2Description: Datasheet; ComponentLink2URL: http://cds.linear.com/docs/en/datasheet/10765fc.pdf; ComponentLink3Description: Package Specification; ComponentLink3URL: http://cds.linear.com/docs/en/packaging/TO-220_5_05-08-1421.pdf
footprint LT-T-5-S (FM, 5-Leads, Body 10.55x4.6mm, Pitch 1.7mm)
pins: 1 SENSE (in), 2 VC, 3 GND (power), 4 VSW (power), 5 VIN (power)

## LT1076CT-5#PBF
designator U?
Step-Down Switching Regulator, 5-pin FM (T-5), 0 to 70 degC, Pb-Free; Manufacturer: Linear Technology; PartNumber: LT1076CT-5#PBF; Number of Outputs: 1; DatasheetVersion: Rev. C; PackageVersion: Aug-10; PackageReference: T-5; PackageDescription: 5-Pin Plastic TO-220 (Standard), Body 10.224 x 8.89 mm, Pitch 1.7 mm; Supplier 1: Digi-Key; Supplier Part Number 1: LT1076CT-5#PBF-ND; Supplier 2: Farnell; Supplier Part Number 2: 9559655; Supplier 3: Newark; Supplier Part Number 3: 57M1340; RoHS: TRUE; Mounting Technology: Through Hole; ComponentLink1Description: Manufacturer URL; ComponentLink1URL: http://www.linear.com/; ComponentLink2Description: Datasheet; ComponentLink2URL: http://cds.linear.com/docs/en/datasheet/10765fc.pdf; ComponentLink3Description: Package Specification; ComponentLink3URL: http://cds.linear.com/docs/en/packaging/TO-220_5_05-08-1421.pdf
footprint LT-T-5-S (FM, 5-Leads, Body 10.55x4.6mm, Pitch 1.7mm)
pins: 1 SENSE (in), 2 VC, 3 GND (power), 4 VSW (power), 5 VIN (power)

## LT1076HVCR#PBF
designator U?
Step-Down Switching Regulator, 7-pin DPAK (R-7), 0 to 70 degC, Pb-Free; Manufacturer: Linear Technology; PartNumber: LT1076HVCR#PBF; Number of Outputs: 1; DatasheetVersion: Rev. D; PackageVersion: Rev. F, 05/2012; PackageReference: R-7; PackageDescription: 7-Pin Plastic DD Pak, Body 10.2235 x 8.89 mm, Pitch 1.27 mm; Supplier 1: Digi-Key; Supplier Part Number 1: LT1076HVCR#PBF-ND; Supplier 2: Farnell; Supplier Part Number 2: 2211411; Supplier 3: Newark; Supplier Part Number 3: 57M1352; RoHS: TRUE; Mounting Technology: Surface Mount; ComponentLink1Description: Manufacturer URL; ComponentLink1URL: http://www.linear.com/; ComponentLink2Description: Datasheet; ComponentLink2URL: http://cds.linear.com/docs/en/datasheet/1074fds.pdf; ComponentLink3Description: Package Specification; ComponentLink3URL: http://cds.linear.com/docs/en/packaging/05081462_F_R.pdf
footprint LT-R-7_N (DPAK, 7-Leads, Body 10.224x8.89mm, Pitch 1.27mm, IPC Medium Density)
footprint LT-R-7_L (DPAK, 7-Leads, Body 10.224x8.89mm, Pitch 1.27mm, IPC High Density)
footprint LT-R-7_M (DPAK, 7-Leads, Body 10.224x8.89mm, Pitch 1.27mm, IPC Low Density)
pins: 1 VIN (power) "The VIN pin is both the supply voltage for internal control circuitry and one end of the high current switch.", 2 VSW (power), 3 ILIM (in) "The ILIM pin is used to reduce current limit below the preset value of 6.5A.", 4 GND (power) "It might seem unusual to describe a ground pin, but in the case of regulators, the ground pin must be connected properly to ensure good load regulation.", 5 FB/SENSE (in) "The feedback pin is the inverting input of an error amplifier which controls the regulator output by adjusting duty cycle.", 6 VC, 7 SHDN (in) "The shutdown pin is used for undervoltage lockout, micropower shutdown, soft-start, delayed start, or as a general purpose on/off control of the regulator output.", 8 TAB (power)

## LT1076HVCR#TR
designator U?
Step-Down Switching Regulator, 7-pin DPAK (R-7), 0 to 70 degC, Tape and Reel; Manufacturer: Linear Technology; PartNumber: LT1076HVCR#TR; Number of Outputs: 1; DatasheetVersion: Rev. D; PackageVersion: Rev. F, 05/2012; PackageReference: R-7; PackageDescription: 7-Pin Plastic DD Pak, Body 10.2235 x 8.89 mm, Pitch 1.27 mm; Supplier 1: Digi-Key; Supplier Part Number 1: LT1076HVCR#TR-ND; Packing: Tape and Reel; RoHS: FALSE; Mounting Technology: Surface Mount; ComponentLink1Description: Manufacturer URL; ComponentLink1URL: http://www.linear.com/; ComponentLink2Description: Datasheet; ComponentLink2URL: http://cds.linear.com/docs/en/datasheet/1074fds.pdf; ComponentLink3Description: Package Specification; ComponentLink3URL: http://cds.linear.com/docs/en/packaging/05081462_F_R.pdf
footprint LT-R-7_N (DPAK, 7-Leads, Body 10.224x8.89mm, Pitch 1.27mm, IPC Medium Density)
footprint LT-R-7_L (DPAK, 7-Leads, Body 10.224x8.89mm, Pitch 1.27mm, IPC High Density)
footprint LT-R-7_M (DPAK, 7-Leads, Body 10.224x8.89mm, Pitch 1.27mm, IPC Low Density)
pins: 1 VIN (power) "The VIN pin is both the supply voltage for internal control circuitry and one end of the high current switch.", 2 VSW (power), 3 ILIM (in) "The ILIM pin is used to reduce current limit below the preset value of 6.5A.", 4 GND (power) "It might seem unusual to describe a ground pin, but in the case of regulators, the ground pin must be connected properly to ensure good load regulation.", 5 FB/SENSE (in) "The feedback pin is the inverting input of an error amplifier which controls the regulator output by adjusting duty cycle.", 6 VC, 7 SHDN (in) "The shutdown pin is used for undervoltage lockout, micropower shutdown, soft-start, delayed start, or as a general purpose on/off control of the regulator output.", 8 TAB (power)

## LT1076HVCR#TRPBF
designator U?
Step-Down Switching Regulator, 7-pin DPAK (R-7), 0 to 70 degC, Pb-Free, Tape and Reel; Manufacturer: Linear Technology; PartNumber: LT1076HVCR#TRPBF; Number of Outputs: 1; DatasheetVersion: Rev. D; PackageVersion: Rev. F, 05/2012; PackageReference: R-7; PackageDescription: 7-Pin Plastic DD Pak, Body 10.2235 x 8.89 mm, Pitch 1.27 mm; Supplier 1: Digi-Key; Supplier Part Number 1: LT1076HVCR#TRPBF-ND; Supplier 2: Newark; Supplier Part Number 2: 57M1354; Packing: Tape and Reel; RoHS: TRUE; Mounting Technology: Surface Mount; ComponentLink1Description: Manufacturer URL; ComponentLink1URL: http://www.linear.com/; ComponentLink2Description: Datasheet; ComponentLink2URL: http://cds.linear.com/docs/en/datasheet/1074fds.pdf; ComponentLink3Description: Package Specification; ComponentLink3URL: http://cds.linear.com/docs/en/packaging/05081462_F_R.pdf
footprint LT-R-7_N (DPAK, 7-Leads, Body 10.224x8.89mm, Pitch 1.27mm, IPC Medium Density)
footprint LT-R-7_L (DPAK, 7-Leads, Body 10.224x8.89mm, Pitch 1.27mm, IPC High Density)
footprint LT-R-7_M (DPAK, 7-Leads, Body 10.224x8.89mm, Pitch 1.27mm, IPC Low Density)
pins: 1 VIN (power) "The VIN pin is both the supply voltage for internal control circuitry and one end of the high current switch.", 2 VSW (power), 3 ILIM (in) "The ILIM pin is used to reduce current limit below the preset value of 6.5A.", 4 GND (power) "It might seem unusual to describe a ground pin, but in the case of regulators, the ground pin must be connected properly to ensure good load regulation.", 5 FB/SENSE (in) "The feedback pin is the inverting input of an error amplifier which controls the regulator output by adjusting duty cycle.", 6 VC, 7 SHDN (in) "The shutdown pin is used for undervoltage lockout, micropower shutdown, soft-start, delayed start, or as a general purpose on/off control of the regulator output.", 8 TAB (power)

## LT1076HVCT
designator U?
Step-Down Switching Regulator, 5-pin FM (T-5), 0 to 70 degC; Manufacturer: Linear Technology; PartNumber: LT1076HVCT; Number of Outputs: 1; DatasheetVersion: Rev. D; PackageVersion: Aug-10; PackageReference: T-5; PackageDescription: 5-Pin Plastic TO-220 (Standard), Body 10.224 x 8.89 mm, Pitch 1.7 mm; Supplier 1: Digi-Key; Supplier Part Number 1: LT1076HVCT-ND; RoHS: FALSE; Mounting Technology: Through Hole; ComponentLink1Description: Manufacturer URL; ComponentLink1URL: http://www.linear.com/; ComponentLink2Description: Datasheet; ComponentLink2URL: http://cds.linear.com/docs/en/datasheet/1074fds.pdf; ComponentLink3Description: Package Specification; ComponentLink3URL: http://cds.linear.com/docs/en/packaging/TO-220_5_05-08-1421.pdf
footprint LT-T-5-S (FM, 5-Leads, Body 10.55x4.6mm, Pitch 1.7mm)
pins: 1 FB (in) "The feedback pin is the inverting input of an error amplifier which controls the regulator output by adjusting duty cycle. The noninverting input is internally connected to a trimmed 2.21V reference. Input bias current is (See Datasheet)", 2 VC, 3 GND (power) "It might seem unusual to describe a ground pin, but in the case of regulators, the ground pin must be connected properly to ensure good load regulation. The internal reference voltage is referenced to the ground pin; so any (See Datasheet)", 4 VSW (power), 5 VIN (power) "The VIN pin is both the supply voltage for internal control circuitry and one end of the high current switch. It is important, especially at low input voltages, that this pin be bypassed with a low ESR, and low inductance (See Datasheet)"

## LT1076HVCT7
designator U?
Step-Down Switching Regulator, 7-pin FM (T7-7), 0 to 70 degC; Manufacturer: Linear Technology; PartNumber: LT1076HVCT7; Number of Outputs: 1; DatasheetVersion: Rev. D; PackageVersion: Jun-10; PackageReference: T7-7; PackageDescription: 7-Pin Plastic TO-220 (Straight Lead), Body 10.224 x 4.382 mm, Pitch 1.27 mm; Supplier 1: Digi-Key; Supplier Part Number 1: LT1076HVCT7-ND; Supplier 2: Newark; Supplier Part Number 2: 57M1359; RoHS: FALSE; Mounting Technology: Through Hole; ComponentLink1Description: Manufacturer URL; ComponentLink1URL: http://www.linear.com/; ComponentLink2Description: Datasheet; ComponentLink2URL: http://cds.linear.com/docs/en/datasheet/1074fds.pdf; ComponentLink3Description: Package Specification; ComponentLink3URL: http://www.linear.com/docs/en/packaging/TO-220_7_05-08-1422_STRAIGHT_LEAD.pdf
footprint LT-T7-7-S_V (FM, 7-Leads, Body 10.55x4.6mm, Pitch 1.27mm)
pins: 1 VIN (power) "The VIN pin is both the supply voltage for internal control circuitry and one end of the high current switch.", 2 VSW (power), 3 ILIM (in) "The ILIM pin is used to reduce current limit below the preset value of 6.5A.", 4 GND (power) "It might seem unusual to describe a ground pin, but in the case of regulators, the ground pin must be connected properly to ensure good load regulation.", 5 FB (in) "The feedback pin is the inverting input of an error amplifier which controls the regulator output by adjusting duty cycle.", 6 VC, 7 SHDN (in) "The shutdown pin is used for undervoltage lockout, micropower shutdown, soft-start, delayed start, or as a general purpose on/off control of the regulator output."

## LT1076HVCT7#PBF
designator U?
Step-Down Switching Regulator, 7-pin FM (T7-7), 0 to 70 degC, Pb-Free; Manufacturer: Linear Technology; PartNumber: LT1076HVCT7#PBF; Number of Outputs: 1; DatasheetVersion: Rev. D; PackageVersion: Jun-10; PackageReference: T7-7; PackageDescription: 7-Pin Plastic TO-220 (Straight Lead), Body 10.224 x 4.382 mm, Pitch 1.27 mm; Supplier 1: Digi-Key; Supplier Part Number 1: LT1076HVCT7#PBF-ND; Supplier 2: Newark; Supplier Part Number 2: 57M1362; RoHS: TRUE; Mounting Technology: Through Hole; ComponentLink1Description: Manufacturer URL; ComponentLink1URL: http://www.linear.com/; ComponentLink2Description: Datasheet; ComponentLink2URL: http://cds.linear.com/docs/en/datasheet/1074fds.pdf; ComponentLink3Description: Package Specification; ComponentLink3URL: http://www.linear.com/docs/en/packaging/TO-220_7_05-08-1422_STRAIGHT_LEAD.pdf
footprint LT-T7-7-S_V (FM, 7-Leads, Body 10.55x4.6mm, Pitch 1.27mm)
pins: 1 VIN (power) "The VIN pin is both the supply voltage for internal control circuitry and one end of the high current switch.", 2 VSW (power), 3 ILIM (in) "The ILIM pin is used to reduce current limit below the preset value of 6.5A.", 4 GND (power) "It might seem unusual to describe a ground pin, but in the case of regulators, the ground pin must be connected properly to ensure good load regulation.", 5 FB (in) "The feedback pin is the inverting input of an error amplifier which controls the regulator output by adjusting duty cycle.", 6 VC, 7 SHDN (in) "The shutdown pin is used for undervoltage lockout, micropower shutdown, soft-start, delayed start, or as a general purpose on/off control of the regulator output."

## LT1076HVCT7-5
designator U?
Step-Down Switching Regulator, 7-pin FM (T7-7), 0 to 70 degC; Manufacturer: Linear Technology; PartNumber: LT1076HVCT7-5; Number of Outputs: 1; DatasheetVersion: Rev. C; PackageVersion: Jun-10; PackageReference: T7-7; PackageDescription: 7-Pin Plastic TO-220 (Straight Lead), Body 10.224 x 4.382 mm, Pitch 1.27 mm; Supplier 1: Digi-Key; Supplier Part Number 1: LT1076HVCT7-5-ND; RoHS: FALSE; Mounting Technology: Through Hole; ComponentLink1Description: Manufacturer URL; ComponentLink1URL: http://www.linear.com/; ComponentLink2Description: Datasheet; ComponentLink2URL: http://cds.linear.com/docs/en/datasheet/10765fc.pdf; ComponentLink3Description: Package Specification; ComponentLink3URL: http://www.linear.com/docs/en/packaging/TO-220_7_05-08-1422_STRAIGHT_LEAD.pdf
footprint LT-T7-7-S_V (FM, 7-Leads, Body 10.55x4.6mm, Pitch 1.27mm)
pins: 1 VIN (power), 2 VSW (power), 3 ILIM (in), 4 GND (power), 5 SENSE (in), 6 VC, 7 SHDN (in)

## LT1076HVCT7-5#PBF
designator U?
Step-Down Switching Regulator, 7-pin FM (T7-7), 0 to 70 degC, Pb-Free; Manufacturer: Linear Technology; PartNumber: LT1076HVCT7-5#PBF; Number of Outputs: 1; DatasheetVersion: Rev. C; PackageVersion: Jun-10; PackageReference: T7-7; PackageDescription: 7-Pin Plastic TO-220 (Straight Lead), Body 10.224 x 4.382 mm, Pitch 1.27 mm; Supplier 1: Digi-Key; Supplier Part Number 1: LT1076HVCT7-5#PBF-ND; RoHS: TRUE; Mounting Technology: Through Hole; ComponentLink1Description: Manufacturer URL; ComponentLink1URL: http://www.linear.com/; ComponentLink2Description: Datasheet; ComponentLink2URL: http://cds.linear.com/docs/en/datasheet/10765fc.pdf; ComponentLink3Description: Package Specification; ComponentLink3URL: http://www.linear.com/docs/en/packaging/TO-220_7_05-08-1422_STRAIGHT_LEAD.pdf
footprint LT-T7-7-S_V (FM, 7-Leads, Body 10.55x4.6mm, Pitch 1.27mm)
pins: 1 VIN (power), 2 VSW (power), 3 ILIM (in), 4 GND (power), 5 SENSE (in), 6 VC, 7 SHDN (in)

## LT1076HVCT#06PBF
designator U?
Step-Down Switching Regulator, 5-pin FM (T-5), 0 to 70 degC, Pb-Free; Manufacturer: Linear Technology; PartNumber: LT1076HVCT#06PBF; Number of Outputs: 1; DatasheetVersion: Rev. D; PackageVersion: Aug-10; PackageReference: T-5; PackageDescription: 5-Pin Plastic TO-220 (Standard), Body 10.224 x 8.89 mm, Pitch 1.7 mm; Supplier 1: Digi-Key; Supplier Part Number 1: LT1076HVCT#06PBF-ND; Supplier 2: Newark; Supplier Part Number 2: 44W8462; RoHS: TRUE; Mounting Technology: Through Hole; ComponentLink1Description: Manufacturer URL; ComponentLink1URL: http://www.linear.com/; ComponentLink2Description: Datasheet; ComponentLink2URL: http://cds.linear.com/docs/en/datasheet/1074fds.pdf; ComponentLink3Description: Package Specification; ComponentLink3URL: http://cds.linear.com/docs/en/packaging/TO-220_5_05-08-1421.pdf
footprint LT-T-5-S (FM, 5-Leads, Body 10.55x4.6mm, Pitch 1.7mm)
pins: 1 FB (in) "The feedback pin is the inverting input of an error amplifier which controls the regulator output by adjusting duty cycle. The noninverting input is internally connected to a trimmed 2.21V reference. Input bias current is (See Datasheet)", 2 VC, 3 GND (power) "It might seem unusual to describe a ground pin, but in the case of regulators, the ground pin must be connected properly to ensure good load regulation. The internal reference voltage is referenced to the ground pin; so any (See Datasheet)", 4 VSW (power), 5 VIN (power) "The VIN pin is both the supply voltage for internal control circuitry and one end of the high current switch. It is important, especially at low input voltages, that this pin be bypassed with a low ESR, and low inductance (See Datasheet)"

## LT1076HVCT#PBF
designator U?
Step-Down Switching Regulator, 5-pin FM (T-5), 0 to 70 degC, Pb-Free; Manufacturer: Linear Technology; PartNumber: LT1076HVCT#PBF; Number of Outputs: 1; DatasheetVersion: Rev. D; PackageVersion: Aug-10; PackageReference: T-5; PackageDescription: 5-Pin Plastic TO-220 (Standard), Body 10.224 x 8.89 mm, Pitch 1.7 mm; Supplier 1: Digi-Key; Supplier Part Number 1: LT1076HVCT#PBF-ND; Supplier 2: Farnell; Supplier Part Number 2: 2102591; Supplier 3: Newark; Supplier Part Number 3: 57M1358; RoHS: TRUE; Mounting Technology: Through Hole; ComponentLink1Description: Manufacturer URL; ComponentLink1URL: http://www.linear.com/; ComponentLink2Description: Datasheet; ComponentLink2URL: http://cds.linear.com/docs/en/datasheet/1074fds.pdf; ComponentLink3Description: Package Specification; ComponentLink3URL: http://cds.linear.com/docs/en/packaging/TO-220_5_05-08-1421.pdf
footprint LT-T-5-S (FM, 5-Leads, Body 10.55x4.6mm, Pitch 1.7mm)
pins: 1 FB (in) "The feedback pin is the inverting input of an error amplifier which controls the regulator output by adjusting duty cycle. The noninverting input is internally connected to a trimmed 2.21V reference. Input bias current is (See Datasheet)", 2 VC, 3 GND (power) "It might seem unusual to describe a ground pin, but in the case of regulators, the ground pin must be connected properly to ensure good load regulation. The internal reference voltage is referenced to the ground pin; so any (See Datasheet)", 4 VSW (power), 5 VIN (power) "The VIN pin is both the supply voltage for internal control circuitry and one end of the high current switch. It is important, especially at low input voltages, that this pin be bypassed with a low ESR, and low inductance (See Datasheet)"